# Altium integrated library National Semiconductor Amplifier.IntLib: 1665 symbols (part 29 of 44)
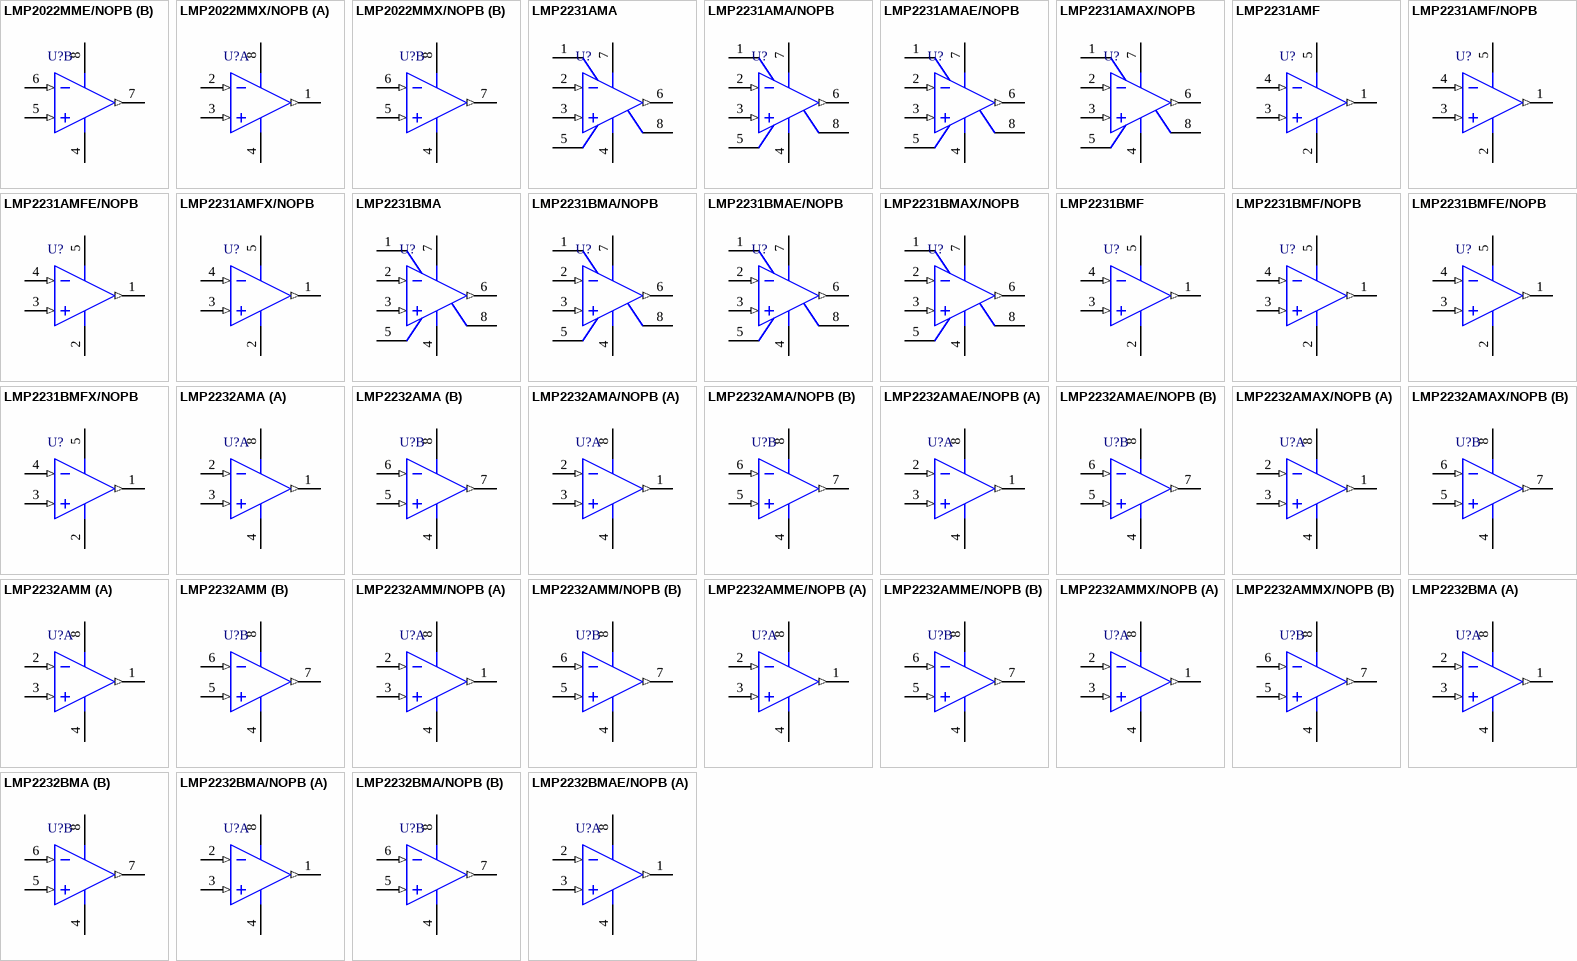
[diagram p112: symbols LMP2022MME/NOPB to LMP2232BMAE/NOPB]

## LMP2232BMA
designator U?
Dual, Micropower, 1.6V, Precision , Operational Amplifier with CMOS Input, 8-pin Narrow SOIC; PartNumber: LMP2232BMA; Manufacturer: National Semiconductor; PackageTopMarking: NSZXTT*LMP22*32BMA; PowerWise: Y; CompType: Amplifiers; DatasheetVersion: Dec-2008; PackageVersion: revM, May-2009; PackageReference: M08A; PackageDescription: SOIC Narrow, 4.9 x 3.9 x 1.45mm, 8 Lead, 1.27mm Pitch; RoHS: Y; PinCount: 8; High-Reliability: Y; Code_JEDEC: MS-012-AA; Code_IPC: SOIC127P600-8; ComponentLink1Description: Manufacturer URL; ComponentLink1URL: http://www.national.com/; ComponentLink2Description: LMP2232 Datasheet; ComponentLink2URL: http://www.national.com/ds/LM/LMP2232.pdf; ComponentLink3Description: LMP2232 Web Page; ComponentLink3URL: http://www.national.com/pf/LM/LMP2232.html; ComponentLink4Description: M08A Package Page; ComponentLink4URL: http://www.national.com/packaging/folders/m08a.html
footprint M08A_N (SOIC, 8-Leads, Body 4.9x3.9mm, Pitch 1.27mm, IPC Medium Density)
footprint M08A_L (SOIC, 8-Leads, Body 4.9x3.9mm, Pitch 1.27mm, IPC High Density)
footprint M08A_M (SOIC, 8-Leads, Body 4.9x3.9mm, Pitch 1.27mm, IPC Low Density)
pins on every part: 4 V- (power), 8 V+ (power)
part A pins: 1 OUTA (out), 2 INA- (in), 3 INA+ (in)
part B pins: 5 INB+ (in), 6 INB- (in), 7 OUTB (out)

## LMP2232BMA/NOPB
designator U?
Dual, Micropower, 1.6V, Precision , Operational Amplifier with CMOS Input, 8-pin Narrow SOIC, Pb-Free; PartNumber: LMP2232BMA/NOPB; Manufacturer: National Semiconductor; PackageTopMarking: NSZXTT*LMP22*32BMA; PowerWise: Y; CompType: Amplifiers; DatasheetVersion: Dec-2008; PackageVersion: revM, May-2009; PackageReference: M08A; PackageDescription: SOIC Narrow, 4.9 x 3.9 x 1.45mm, 8 Lead, 1.27mm Pitch; RoHS: Y; PinCount: 8; High-Reliability: Y; Code_JEDEC: MS-012-AA; Code_IPC: SOIC127P600-8; ComponentLink1Description: Manufacturer URL; ComponentLink1URL: http://www.national.com/; ComponentLink2Description: LMP2232 Datasheet; ComponentLink2URL: http://www.national.com/ds/LM/LMP2232.pdf; ComponentLink3Description: LMP2232 Web Page; ComponentLink3URL: http://www.national.com/pf/LM/LMP2232.html; ComponentLink4Description: M08A Package Page; ComponentLink4URL: http://www.national.com/packaging/folders/m08a.html
footprint M08A_N (SOIC, 8-Leads, Body 4.9x3.9mm, Pitch 1.27mm, IPC Medium Density)
footprint M08A_L (SOIC, 8-Leads, Body 4.9x3.9mm, Pitch 1.27mm, IPC High Density)
footprint M08A_M (SOIC, 8-Leads, Body 4.9x3.9mm, Pitch 1.27mm, IPC Low Density)
pins on every part: 4 V- (power), 8 V+ (power)
part A pins: 1 OUTA (out), 2 INA- (in), 3 INA+ (in)
part B pins: 5 INB+ (in), 6 INB- (in), 7 OUTB (out)

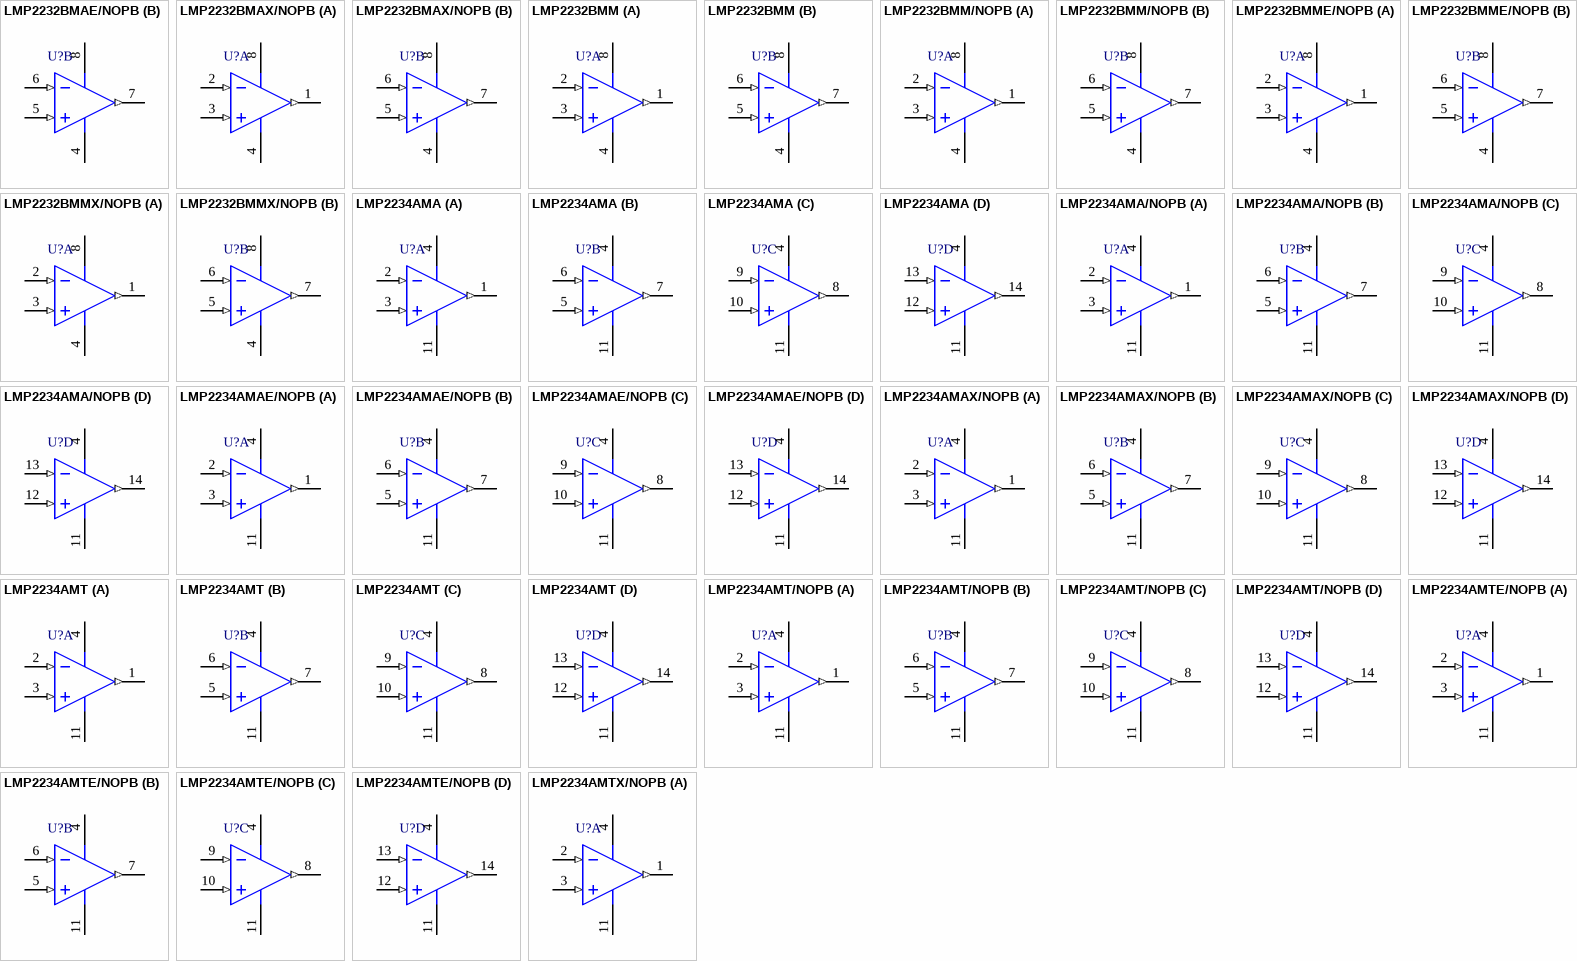
[diagram p57: symbols LMP2232BMAE/NOPB to LMP2234AMTX/NOPB]

## LMP2232BMAE/NOPB
designator U?
Dual, Micropower, 1.6V, Precision , Operational Amplifier with CMOS Input, 8-pin Narrow SOIC, Pb-Free; PartNumber: LMP2232BMAE/NOPB; Manufacturer: National Semiconductor; PackageTopMarking: NSZXTT*LMP22*32BMA; PowerWise: Y; CompType: Amplifiers; DatasheetVersion: Dec-2008; PackageVersion: revM, May-2009; PackageReference: M08A; PackageDescription: SOIC Narrow, 4.9 x 3.9 x 1.45mm, 8 Lead, 1.27mm Pitch; RoHS: Y; PinCount: 8; High-Reliability: Y; Code_JEDEC: MS-012-AA; Code_IPC: SOIC127P600-8; ComponentLink1Description: Manufacturer URL; ComponentLink1URL: http://www.national.com/; ComponentLink2Description: LMP2232 Datasheet; ComponentLink2URL: http://www.national.com/ds/LM/LMP2232.pdf; ComponentLink3Description: LMP2232 Web Page; ComponentLink3URL: http://www.national.com/pf/LM/LMP2232.html; ComponentLink4Description: M08A Package Page; ComponentLink4URL: http://www.national.com/packaging/folders/m08a.html
footprint M08A_N (SOIC, 8-Leads, Body 4.9x3.9mm, Pitch 1.27mm, IPC Medium Density)
footprint M08A_L (SOIC, 8-Leads, Body 4.9x3.9mm, Pitch 1.27mm, IPC High Density)
footprint M08A_M (SOIC, 8-Leads, Body 4.9x3.9mm, Pitch 1.27mm, IPC Low Density)
pins on every part: 4 V- (power), 8 V+ (power)
part A pins: 1 OUTA (out), 2 INA- (in), 3 INA+ (in)
part B pins: 5 INB+ (in), 6 INB- (in), 7 OUTB (out)

## LMP2232BMAX/NOPB
designator U?
Dual, Micropower, 1.6V, Precision , Operational Amplifier with CMOS Input, 8-pin Narrow SOIC, Pb-Free; PartNumber: LMP2232BMAX/NOPB; Manufacturer: National Semiconductor; PackageTopMarking: NSZXTT*LMP22*32BMA; PowerWise: Y; CompType: Amplifiers; DatasheetVersion: Dec-2008; PackageVersion: revM, May-2009; PackageReference: M08A; PackageDescription: SOIC Narrow, 4.9 x 3.9 x 1.45mm, 8 Lead, 1.27mm Pitch; RoHS: Y; PinCount: 8; High-Reliability: Y; Code_JEDEC: MS-012-AA; Code_IPC: SOIC127P600-8; ComponentLink1Description: Manufacturer URL; ComponentLink1URL: http://www.national.com/; ComponentLink2Description: LMP2232 Datasheet; ComponentLink2URL: http://www.national.com/ds/LM/LMP2232.pdf; ComponentLink3Description: LMP2232 Web Page; ComponentLink3URL: http://www.national.com/pf/LM/LMP2232.html; ComponentLink4Description: M08A Package Page; ComponentLink4URL: http://www.national.com/packaging/folders/m08a.html
footprint M08A_N (SOIC, 8-Leads, Body 4.9x3.9mm, Pitch 1.27mm, IPC Medium Density)
footprint M08A_L (SOIC, 8-Leads, Body 4.9x3.9mm, Pitch 1.27mm, IPC High Density)
footprint M08A_M (SOIC, 8-Leads, Body 4.9x3.9mm, Pitch 1.27mm, IPC Low Density)
pins on every part: 4 V- (power), 8 V+ (power)
part A pins: 1 OUTA (out), 2 INA- (in), 3 INA+ (in)
part B pins: 5 INB+ (in), 6 INB- (in), 7 OUTB (out)

## LMP2232BMM
designator U?
Dual, Micropower, 1.6V, Precision , Operational Amplifier with CMOS Input, 8-pin Mini SOIC; PartNumber: LMP2232BMM; Manufacturer: National Semiconductor; PackageTopMarking: ZXTT*AK5B; PowerWise: Y; CompType: Amplifiers; DatasheetVersion: Dec-2008; PackageVersion: revF, Apr-2008; PackageReference: MUA08A; PackageDescription: MINI SOIC, .118 x .118 x .034in, 8 Lead, .0256in Pitch; RoHS: Y; PinCount: 8; High-Reliability: Y; Code_JEDEC: MO-187-AA; ComponentLink1Description: Manufacturer URL; ComponentLink1URL: http://www.national.com/; ComponentLink2Description: LMP2232 Datasheet; ComponentLink2URL: http://www.national.com/ds/LM/LMP2232.pdf; ComponentLink3Description: LMP2232 Web Page; ComponentLink3URL: http://www.national.com/pf/LM/LMP2232.html; ComponentLink4Description: MUA08A Package Page; ComponentLink4URL: http://www.national.com/packaging/folders/mua08a.html
footprint MUA08A_N (TSOP, 8-Leads, Body 3x3mm, Pitch 0.65mm, IPC Medium Density)
footprint MUA08A_L (TSOP, 8-Leads, Body 3x3mm, Pitch 0.65mm, IPC High Density)
footprint MUA08A_M (TSOP, 8-Leads, Body 3x3mm, Pitch 0.65mm, IPC Low Density)
pins on every part: 4 V- (power), 8 V+ (power)
part A pins: 1 OUTA (out), 2 INA- (in), 3 INA+ (in)
part B pins: 5 INB+ (in), 6 INB- (in), 7 OUTB (out)

## LMP2232BMM/NOPB
designator U?
Dual, Micropower, 1.6V, Precision , Operational Amplifier with CMOS Input, 8-pin Mini SOIC, Pb-Free; PartNumber: LMP2232BMM/NOPB; Manufacturer: National Semiconductor; PackageTopMarking: ZXTT*AK5B; PowerWise: Y; CompType: Amplifiers; DatasheetVersion: Dec-2008; PackageVersion: revF, Apr-2008; PackageReference: MUA08A; PackageDescription: MINI SOIC, .118 x .118 x .034in, 8 Lead, .0256in Pitch; RoHS: Y; PinCount: 8; High-Reliability: Y; Code_JEDEC: MO-187-AA; ComponentLink1Description: Manufacturer URL; ComponentLink1URL: http://www.national.com/; ComponentLink2Description: LMP2232 Datasheet; ComponentLink2URL: http://www.national.com/ds/LM/LMP2232.pdf; ComponentLink3Description: LMP2232 Web Page; ComponentLink3URL: http://www.national.com/pf/LM/LMP2232.html; ComponentLink4Description: MUA08A Package Page; ComponentLink4URL: http://www.national.com/packaging/folders/mua08a.html
footprint MUA08A_N (TSOP, 8-Leads, Body 3x3mm, Pitch 0.65mm, IPC Medium Density)
footprint MUA08A_L (TSOP, 8-Leads, Body 3x3mm, Pitch 0.65mm, IPC High Density)
footprint MUA08A_M (TSOP, 8-Leads, Body 3x3mm, Pitch 0.65mm, IPC Low Density)
pins on every part: 4 V- (power), 8 V+ (power)
part A pins: 1 OUTA (out), 2 INA- (in), 3 INA+ (in)
part B pins: 5 INB+ (in), 6 INB- (in), 7 OUTB (out)

## LMP2232BMME/NOPB
designator U?
Dual, Micropower, 1.6V, Precision , Operational Amplifier with CMOS Input, 8-pin Mini SOIC, Pb-Free; PartNumber: LMP2232BMME/NOPB; Manufacturer: National Semiconductor; PackageTopMarking: ZXTT*AK5B; PowerWise: Y; CompType: Amplifiers; DatasheetVersion: Dec-2008; PackageVersion: revF, Apr-2008; PackageReference: MUA08A; PackageDescription: MINI SOIC, .118 x .118 x .034in, 8 Lead, .0256in Pitch; RoHS: Y; PinCount: 8; High-Reliability: Y; Code_JEDEC: MO-187-AA; ComponentLink1Description: Manufacturer URL; ComponentLink1URL: http://www.national.com/; ComponentLink2Description: LMP2232 Datasheet; ComponentLink2URL: http://www.national.com/ds/LM/LMP2232.pdf; ComponentLink3Description: LMP2232 Web Page; ComponentLink3URL: http://www.national.com/pf/LM/LMP2232.html; ComponentLink4Description: MUA08A Package Page; ComponentLink4URL: http://www.national.com/packaging/folders/mua08a.html
footprint MUA08A_N (TSOP, 8-Leads, Body 3x3mm, Pitch 0.65mm, IPC Medium Density)
footprint MUA08A_L (TSOP, 8-Leads, Body 3x3mm, Pitch 0.65mm, IPC High Density)
footprint MUA08A_M (TSOP, 8-Leads, Body 3x3mm, Pitch 0.65mm, IPC Low Density)
pins on every part: 4 V- (power), 8 V+ (power)
part A pins: 1 OUTA (out), 2 INA- (in), 3 INA+ (in)
part B pins: 5 INB+ (in), 6 INB- (in), 7 OUTB (out)

## LMP2232BMMX/NOPB
designator U?
Dual, Micropower, 1.6V, Precision , Operational Amplifier with CMOS Input, 8-pin Mini SOIC, Pb-Free; PartNumber: LMP2232BMMX/NOPB; Manufacturer: National Semiconductor; PackageTopMarking: ZXTT*AK5B; PowerWise: Y; CompType: Amplifiers; DatasheetVersion: Dec-2008; PackageVersion: revF, Apr-2008; PackageReference: MUA08A; PackageDescription: MINI SOIC, .118 x .118 x .034in, 8 Lead, .0256in Pitch; RoHS: Y; PinCount: 8; High-Reliability: Y; Code_JEDEC: MO-187-AA; ComponentLink1Description: Manufacturer URL; ComponentLink1URL: http://www.national.com/; ComponentLink2Description: LMP2232 Datasheet; ComponentLink2URL: http://www.national.com/ds/LM/LMP2232.pdf; ComponentLink3Description: LMP2232 Web Page; ComponentLink3URL: http://www.national.com/pf/LM/LMP2232.html; ComponentLink4Description: MUA08A Package Page; ComponentLink4URL: http://www.national.com/packaging/folders/mua08a.html
footprint MUA08A_N (TSOP, 8-Leads, Body 3x3mm, Pitch 0.65mm, IPC Medium Density)
footprint MUA08A_L (TSOP, 8-Leads, Body 3x3mm, Pitch 0.65mm, IPC High Density)
footprint MUA08A_M (TSOP, 8-Leads, Body 3x3mm, Pitch 0.65mm, IPC Low Density)
pins on every part: 4 V- (power), 8 V+ (power)
part A pins: 1 OUTA (out), 2 INA- (in), 3 INA+ (in)
part B pins: 5 INB+ (in), 6 INB- (in), 7 OUTB (out)

## LMP2234AMA
designator U?
Quad Micropower, 1.6V, Precision, Operational Amplifier with CMOS Input, 14-pin Narrow SOIC; PartNumber: LMP2234AMA; Manufacturer: National Semiconductor; PackageTopMarking: NSUZXYTT*LMP2234*AMA; PowerWise: N; CompType: Amplifiers; High-Reliability: Y; DatasheetVersion: Dec-2008; PackageVersion: revJ, Jan-1996; PackageReference: M14A; PackageDescription: Molded Package S.O., .150in Wide, 14 Lead; RoHS: Y; PinCount: 14; Code_JEDEC: MS-012AB; Code_IPC: SOIC127P600-14; ComponentLink1Description: Manufacturer URL; ComponentLink1URL: http://www.national.com/; ComponentLink2Description: LMP2234 Datasheet; ComponentLink2URL: http://www.national.com/ds/LM/LMP2234.pdf; ComponentLink3Description: LMP2234 Web Page; ComponentLink3URL: http://www.national.com/pf/LM/LMP2234.html; ComponentLink4Description: M14A Package Page; ComponentLink4URL: http://www.national.com/packaging/folders/m14a.html
footprint M14A_N (SOIC, 14-Leads, Body 8.6x3.9mm, Pitch 1.27mm, IPC Medium Density)
footprint M14A_L (SOIC, 14-Leads, Body 8.6x3.9mm, Pitch 1.27mm, IPC High Density)
footprint M14A_M (SOIC, 14-Leads, Body 8.6x3.9mm, Pitch 1.27mm, IPC Low Density)
pins on every part: 4 V+ (power), 11 V- (power)
part A pins: 1 OUTA (out), 2 INA- (in), 3 INA+ (in)
part B pins: 5 INB+ (in), 6 INB- (in), 7 OUTB (out)
part C pins: 8 OUTC (out), 9 INC- (in), 10 INC+ (in)
part D pins: 12 IND+ (in), 13 IND- (in), 14 OUTD (out)

## LMP2234AMA/NOPB
designator U?
Quad Micropower, 1.6V, Precision, Operational Amplifier with CMOS Input, 14-pin Narrow SOIC, Pb-Free; PartNumber: LMP2234AMA/NOPB; Manufacturer: National Semiconductor; PackageTopMarking: NSUZXYTTE#*LMP2234*AMA; PowerWise: N; CompType: Amplifiers; High-Reliability: Y; DatasheetVersion: Dec-2008; PackageVersion: revJ, Jan-1996; PackageReference: M14A; PackageDescription: Molded Package S.O., .150in Wide, 14 Lead; RoHS: Y; PinCount: 14; Code_JEDEC: MS-012AB; Code_IPC: SOIC127P600-14; ComponentLink1Description: Manufacturer URL; ComponentLink1URL: http://www.national.com/; ComponentLink2Description: LMP2234 Datasheet; ComponentLink2URL: http://www.national.com/ds/LM/LMP2234.pdf; ComponentLink3Description: LMP2234 Web Page; ComponentLink3URL: http://www.national.com/pf/LM/LMP2234.html; ComponentLink4Description: M14A Package Page; ComponentLink4URL: http://www.national.com/packaging/folders/m14a.html
footprint M14A_N (SOIC, 14-Leads, Body 8.6x3.9mm, Pitch 1.27mm, IPC Medium Density)
footprint M14A_L (SOIC, 14-Leads, Body 8.6x3.9mm, Pitch 1.27mm, IPC High Density)
footprint M14A_M (SOIC, 14-Leads, Body 8.6x3.9mm, Pitch 1.27mm, IPC Low Density)
pins on every part: 4 V+ (power), 11 V- (power)
part A pins: 1 OUTA (out), 2 INA- (in), 3 INA+ (in)
part B pins: 5 INB+ (in), 6 INB- (in), 7 OUTB (out)
part C pins: 8 OUTC (out), 9 INC- (in), 10 INC+ (in)
part D pins: 12 IND+ (in), 13 IND- (in), 14 OUTD (out)

## LMP2234AMAE/NOPB
designator U?
Quad Micropower, 1.6V, Precision, Operational Amplifier with CMOS Input, 14-pin Narrow SOIC, Pb-Free; PartNumber: LMP2234AMAE/NOPB; Manufacturer: National Semiconductor; PackageTopMarking: NSUZXYTTE#*LMP2234*AMA; PowerWise: N; CompType: Amplifiers; High-Reliability: Y; DatasheetVersion: Dec-2008; PackageVersion: revJ, Jan-1996; PackageReference: M14A; PackageDescription: Molded Package S.O., .150in Wide, 14 Lead; RoHS: Y; PinCount: 14; Code_JEDEC: MS-012AB; Code_IPC: SOIC127P600-14; ComponentLink1Description: Manufacturer URL; ComponentLink1URL: http://www.national.com/; ComponentLink2Description: LMP2234 Datasheet; ComponentLink2URL: http://www.national.com/ds/LM/LMP2234.pdf; ComponentLink3Description: LMP2234 Web Page; ComponentLink3URL: http://www.national.com/pf/LM/LMP2234.html; ComponentLink4Description: M14A Package Page; ComponentLink4URL: http://www.national.com/packaging/folders/m14a.html
footprint M14A_N (SOIC, 14-Leads, Body 8.6x3.9mm, Pitch 1.27mm, IPC Medium Density)
footprint M14A_L (SOIC, 14-Leads, Body 8.6x3.9mm, Pitch 1.27mm, IPC High Density)
footprint M14A_M (SOIC, 14-Leads, Body 8.6x3.9mm, Pitch 1.27mm, IPC Low Density)
pins on every part: 4 V+ (power), 11 V- (power)
part A pins: 1 OUTA (out), 2 INA- (in), 3 INA+ (in)
part B pins: 5 INB+ (in), 6 INB- (in), 7 OUTB (out)
part C pins: 8 OUTC (out), 9 INC- (in), 10 INC+ (in)
part D pins: 12 IND+ (in), 13 IND- (in), 14 OUTD (out)

## LMP2234AMAX/NOPB
designator U?
Quad Micropower, 1.6V, Precision, Operational Amplifier with CMOS Input, 14-pin Narrow SOIC, Pb-Free; PartNumber: LMP2234AMAX/NOPB; Manufacturer: National Semiconductor; PackageTopMarking: NSUZXYTTE#*LMP2234*AMA; PowerWise: N; CompType: Amplifiers; High-Reliability: Y; DatasheetVersion: Dec-2008; PackageVersion: revJ, Jan-1996; PackageReference: M14A; PackageDescription: Molded Package S.O., .150in Wide, 14 Lead; RoHS: Y; PinCount: 14; Code_JEDEC: MS-012AB; Code_IPC: SOIC127P600-14; ComponentLink1Description: Manufacturer URL; ComponentLink1URL: http://www.national.com/; ComponentLink2Description: LMP2234 Datasheet; ComponentLink2URL: http://www.national.com/ds/LM/LMP2234.pdf; ComponentLink3Description: LMP2234 Web Page; ComponentLink3URL: http://www.national.com/pf/LM/LMP2234.html; ComponentLink4Description: M14A Package Page; ComponentLink4URL: http://www.national.com/packaging/folders/m14a.html
footprint M14A_N (SOIC, 14-Leads, Body 8.6x3.9mm, Pitch 1.27mm, IPC Medium Density)
footprint M14A_L (SOIC, 14-Leads, Body 8.6x3.9mm, Pitch 1.27mm, IPC High Density)
footprint M14A_M (SOIC, 14-Leads, Body 8.6x3.9mm, Pitch 1.27mm, IPC Low Density)
pins on every part: 4 V+ (power), 11 V- (power)
part A pins: 1 OUTA (out), 2 INA- (in), 3 INA+ (in)
part B pins: 5 INB+ (in), 6 INB- (in), 7 OUTB (out)
part C pins: 8 OUTC (out), 9 INC- (in), 10 INC+ (in)
part D pins: 12 IND+ (in), 13 IND- (in), 14 OUTD (out)

## LMP2234AMT
designator U?
Quad Micropower, 1.6V, Precision, Operational Amplifier with CMOS Input, 14-pin TSSOP; PartNumber: LMP2234AMT; Manufacturer: National Semiconductor; PackageTopMarking: NSUZXYTT*LMP223*4AMT; PowerWise: N; CompType: Amplifiers; High-Reliability: Y; DatasheetVersion: Dec-2008; PackageVersion: revD, Jun-2003; PackageReference: MTC14; PackageDescription: Molded TSSOP, JEDEC, 5 x 4.4 x 0.9mm Body, 14 Lead, 0.65mm Pitch; RoHS: Y; PinCount: 14; Code_JEDEC: MO-153-AB-1; ComponentLink1Description: Manufacturer URL; ComponentLink1URL: http://www.national.com/; ComponentLink2Description: LMP2234 Datasheet; ComponentLink2URL: http://www.national.com/ds/LM/LMP2234.pdf; ComponentLink3Description: LMP2234 Web Page; ComponentLink3URL: http://www.national.com/pf/LM/LMP2234.html; ComponentLink4Description: MTC14 Package Page; ComponentLink4URL: http://www.national.com/packaging/folders/mtc14.html
footprint MTC14_N (TSOP, 14-Leads, Body 5x4.4mm, Pitch 0.65mm, IPC Medium Density)
footprint MTC14_L (TSOP, 14-Leads, Body 5x4.4mm, Pitch 0.65mm, IPC High Density)
footprint MTC14_M (TSOP, 14-Leads, Body 5x4.4mm, Pitch 0.65mm, IPC Low Density)
pins on every part: 4 V+ (power), 11 V- (power)
part A pins: 1 OUTA (out), 2 INA- (in), 3 INA+ (in)
part B pins: 5 INB+ (in), 6 INB- (in), 7 OUTB (out)
part C pins: 8 OUTC (out), 9 INC- (in), 10 INC+ (in)
part D pins: 12 IND+ (in), 13 IND- (in), 14 OUTD (out)

## LMP2234AMT/NOPB
designator U?
Quad Micropower, 1.6V, Precision, Operational Amplifier with CMOS Input, 14-pin TSSOP, Pb-Free; PartNumber: LMP2234AMT/NOPB; Manufacturer: National Semiconductor; PackageTopMarking: NSUZXYTT*LMP223*4AMT; PowerWise: N; CompType: Amplifiers; High-Reliability: Y; DatasheetVersion: Dec-2008; PackageVersion: revD, Jun-2003; PackageReference: MTC14; PackageDescription: Molded TSSOP, JEDEC, 5 x 4.4 x 0.9mm Body, 14 Lead, 0.65mm Pitch; RoHS: Y; PinCount: 14; Code_JEDEC: MO-153-AB-1; ComponentLink1Description: Manufacturer URL; ComponentLink1URL: http://www.national.com/; ComponentLink2Description: LMP2234 Datasheet; ComponentLink2URL: http://www.national.com/ds/LM/LMP2234.pdf; ComponentLink3Description: LMP2234 Web Page; ComponentLink3URL: http://www.national.com/pf/LM/LMP2234.html; ComponentLink4Description: MTC14 Package Page; ComponentLink4URL: http://www.national.com/packaging/folders/mtc14.html
footprint MTC14_N (TSOP, 14-Leads, Body 5x4.4mm, Pitch 0.65mm, IPC Medium Density)
footprint MTC14_L (TSOP, 14-Leads, Body 5x4.4mm, Pitch 0.65mm, IPC High Density)
footprint MTC14_M (TSOP, 14-Leads, Body 5x4.4mm, Pitch 0.65mm, IPC Low Density)
pins on every part: 4 V+ (power), 11 V- (power)
part A pins: 1 OUTA (out), 2 INA- (in), 3 INA+ (in)
part B pins: 5 INB+ (in), 6 INB- (in), 7 OUTB (out)
part C pins: 8 OUTC (out), 9 INC- (in), 10 INC+ (in)
part D pins: 12 IND+ (in), 13 IND- (in), 14 OUTD (out)

## LMP2234AMTE/NOPB
designator U?
Quad Micropower, 1.6V, Precision, Operational Amplifier with CMOS Input, 14-pin TSSOP, Pb-Free; PartNumber: LMP2234AMTE/NOPB; Manufacturer: National Semiconductor; PackageTopMarking: NSUZXYTT*LMP223*4AMT; PowerWise: N; CompType: Amplifiers; High-Reliability: Y; DatasheetVersion: Dec-2008; PackageVersion: revD, Jun-2003; PackageReference: MTC14; PackageDescription: Molded TSSOP, JEDEC, 5 x 4.4 x 0.9mm Body, 14 Lead, 0.65mm Pitch; RoHS: Y; PinCount: 14; Code_JEDEC: MO-153-AB-1; ComponentLink1Description: Manufacturer URL; ComponentLink1URL: http://www.national.com/; ComponentLink2Description: LMP2234 Datasheet; ComponentLink2URL: http://www.national.com/ds/LM/LMP2234.pdf; ComponentLink3Description: LMP2234 Web Page; ComponentLink3URL: http://www.national.com/pf/LM/LMP2234.html; ComponentLink4Description: MTC14 Package Page; ComponentLink4URL: http://www.national.com/packaging/folders/mtc14.html
footprint MTC14_N (TSOP, 14-Leads, Body 5x4.4mm, Pitch 0.65mm, IPC Medium Density)
footprint MTC14_L (TSOP, 14-Leads, Body 5x4.4mm, Pitch 0.65mm, IPC High Density)
footprint MTC14_M (TSOP, 14-Leads, Body 5x4.4mm, Pitch 0.65mm, IPC Low Density)
pins on every part: 4 V+ (power), 11 V- (power)
part A pins: 1 OUTA (out), 2 INA- (in), 3 INA+ (in)
part B pins: 5 INB+ (in), 6 INB- (in), 7 OUTB (out)
part C pins: 8 OUTC (out), 9 INC- (in), 10 INC+ (in)
part D pins: 12 IND+ (in), 13 IND- (in), 14 OUTD (out)

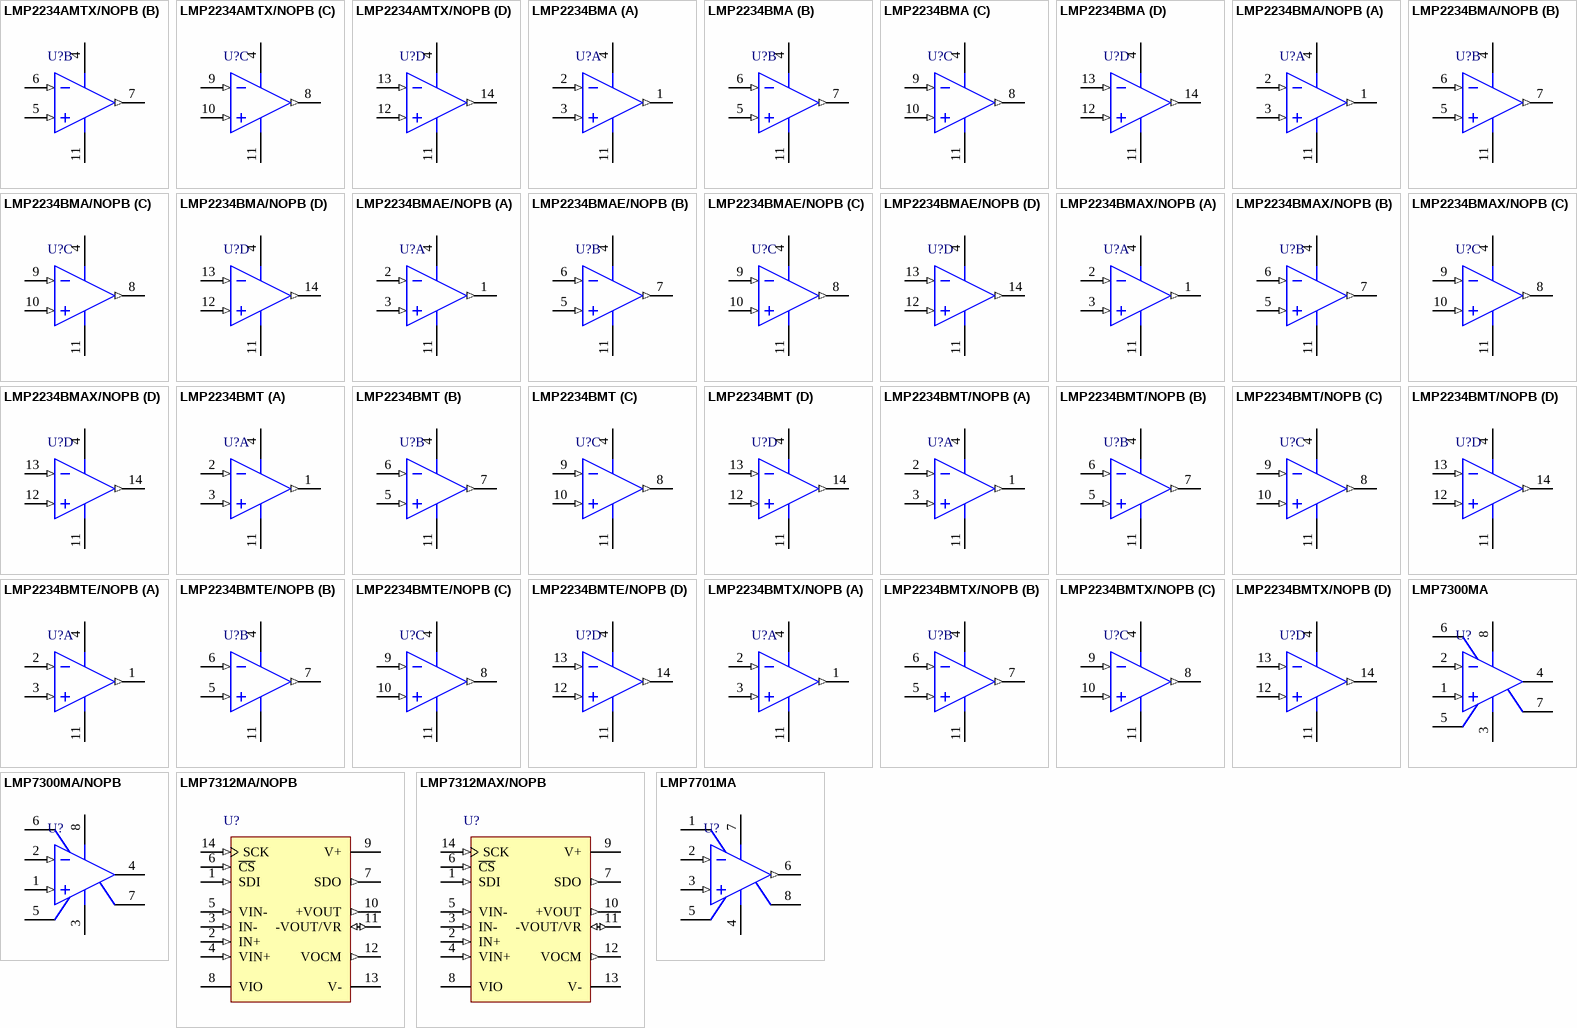
[diagram p58: symbols LMP2234AMTX/NOPB to LMP7701MA]

## LMP2234AMTX/NOPB
designator U?
Quad Micropower, 1.6V, Precision, Operational Amplifier with CMOS Input, 14-pin TSSOP, Pb-Free; PartNumber: LMP2234AMTX/NOPB; Manufacturer: National Semiconductor; PackageTopMarking: NSUZXYTT*LMP223*4AMT; PowerWise: N; CompType: Amplifiers; High-Reliability: Y; DatasheetVersion: Dec-2008; PackageVersion: revD, Jun-2003; PackageReference: MTC14; PackageDescription: Molded TSSOP, JEDEC, 5 x 4.4 x 0.9mm Body, 14 Lead, 0.65mm Pitch; RoHS: Y; PinCount: 14; Code_JEDEC: MO-153-AB-1; ComponentLink1Description: Manufacturer URL; ComponentLink1URL: http://www.national.com/; ComponentLink2Description: LMP2234 Datasheet; ComponentLink2URL: http://www.national.com/ds/LM/LMP2234.pdf; ComponentLink3Description: LMP2234 Web Page; ComponentLink3URL: http://www.national.com/pf/LM/LMP2234.html; ComponentLink4Description: MTC14 Package Page; ComponentLink4URL: http://www.national.com/packaging/folders/mtc14.html
footprint MTC14_N (TSOP, 14-Leads, Body 5x4.4mm, Pitch 0.65mm, IPC Medium Density)
footprint MTC14_L (TSOP, 14-Leads, Body 5x4.4mm, Pitch 0.65mm, IPC High Density)
footprint MTC14_M (TSOP, 14-Leads, Body 5x4.4mm, Pitch 0.65mm, IPC Low Density)
pins on every part: 4 V+ (power), 11 V- (power)
part A pins: 1 OUTA (out), 2 INA- (in), 3 INA+ (in)
part B pins: 5 INB+ (in), 6 INB- (in), 7 OUTB (out)
part C pins: 8 OUTC (out), 9 INC- (in), 10 INC+ (in)
part D pins: 12 IND+ (in), 13 IND- (in), 14 OUTD (out)

## LMP2234BMA
designator U?
Quad Micropower, 1.6V, Precision, Operational Amplifier with CMOS Input, 14-pin Narrow SOIC; PartNumber: LMP2234BMA; Manufacturer: National Semiconductor; PackageTopMarking: NSUZXYTT*LMP2234*BMA; PowerWise: N; CompType: Amplifiers; High-Reliability: Y; DatasheetVersion: Dec-2008; PackageVersion: revJ, Jan-1996; PackageReference: M14A; PackageDescription: Molded Package S.O., .150in Wide, 14 Lead; RoHS: Y; PinCount: 14; Code_JEDEC: MS-012AB; Code_IPC: SOIC127P600-14; ComponentLink1Description: Manufacturer URL; ComponentLink1URL: http://www.national.com/; ComponentLink2Description: LMP2234 Datasheet; ComponentLink2URL: http://www.national.com/ds/LM/LMP2234.pdf; ComponentLink3Description: LMP2234 Web Page; ComponentLink3URL: http://www.national.com/pf/LM/LMP2234.html; ComponentLink4Description: M14A Package Page; ComponentLink4URL: http://www.national.com/packaging/folders/m14a.html
footprint M14A_N (SOIC, 14-Leads, Body 8.6x3.9mm, Pitch 1.27mm, IPC Medium Density)
footprint M14A_L (SOIC, 14-Leads, Body 8.6x3.9mm, Pitch 1.27mm, IPC High Density)
footprint M14A_M (SOIC, 14-Leads, Body 8.6x3.9mm, Pitch 1.27mm, IPC Low Density)
pins on every part: 4 V+ (power), 11 V- (power)
part A pins: 1 OUTA (out), 2 INA- (in), 3 INA+ (in)
part B pins: 5 INB+ (in), 6 INB- (in), 7 OUTB (out)
part C pins: 8 OUTC (out), 9 INC- (in), 10 INC+ (in)
part D pins: 12 IND+ (in), 13 IND- (in), 14 OUTD (out)

## LMP2234BMA/NOPB
designator U?
Quad Micropower, 1.6V, Precision, Operational Amplifier with CMOS Input, 14-pin Narrow SOIC, Pb-Free; PartNumber: LMP2234BMA/NOPB; Manufacturer: National Semiconductor; PackageTopMarking: NSUZXYTTE#*LMP2234*BMA; PowerWise: N; CompType: Amplifiers; High-Reliability: Y; DatasheetVersion: Dec-2008; PackageVersion: revJ, Jan-1996; PackageReference: M14A; PackageDescription: Molded Package S.O., .150in Wide, 14 Lead; RoHS: Y; PinCount: 14; Code_JEDEC: MS-012AB; Code_IPC: SOIC127P600-14; ComponentLink1Description: Manufacturer URL; ComponentLink1URL: http://www.national.com/; ComponentLink2Description: LMP2234 Datasheet; ComponentLink2URL: http://www.national.com/ds/LM/LMP2234.pdf; ComponentLink3Description: LMP2234 Web Page; ComponentLink3URL: http://www.national.com/pf/LM/LMP2234.html; ComponentLink4Description: M14A Package Page; ComponentLink4URL: http://www.national.com/packaging/folders/m14a.html
footprint M14A_N (SOIC, 14-Leads, Body 8.6x3.9mm, Pitch 1.27mm, IPC Medium Density)
footprint M14A_L (SOIC, 14-Leads, Body 8.6x3.9mm, Pitch 1.27mm, IPC High Density)
footprint M14A_M (SOIC, 14-Leads, Body 8.6x3.9mm, Pitch 1.27mm, IPC Low Density)
pins on every part: 4 V+ (power), 11 V- (power)
part A pins: 1 OUTA (out), 2 INA- (in), 3 INA+ (in)
part B pins: 5 INB+ (in), 6 INB- (in), 7 OUTB (out)
part C pins: 8 OUTC (out), 9 INC- (in), 10 INC+ (in)
part D pins: 12 IND+ (in), 13 IND- (in), 14 OUTD (out)

## LMP2234BMAE/NOPB
designator U?
Quad Micropower, 1.6V, Precision, Operational Amplifier with CMOS Input, 14-pin Narrow SOIC, Pb-Free; PartNumber: LMP2234BMAE/NOPB; Manufacturer: National Semiconductor; PackageTopMarking: NSUZXYTTE#*LMP2234*BMA; PowerWise: N; CompType: Amplifiers; High-Reliability: Y; DatasheetVersion: Dec-2008; PackageVersion: revJ, Jan-1996; PackageReference: M14A; PackageDescription: Molded Package S.O., .150in Wide, 14 Lead; RoHS: Y; PinCount: 14; Code_JEDEC: MS-012AB; Code_IPC: SOIC127P600-14; ComponentLink1Description: Manufacturer URL; ComponentLink1URL: http://www.national.com/; ComponentLink2Description: LMP2234 Datasheet; ComponentLink2URL: http://www.national.com/ds/LM/LMP2234.pdf; ComponentLink3Description: LMP2234 Web Page; ComponentLink3URL: http://www.national.com/pf/LM/LMP2234.html; ComponentLink4Description: M14A Package Page; ComponentLink4URL: http://www.national.com/packaging/folders/m14a.html
footprint M14A_N (SOIC, 14-Leads, Body 8.6x3.9mm, Pitch 1.27mm, IPC Medium Density)
footprint M14A_L (SOIC, 14-Leads, Body 8.6x3.9mm, Pitch 1.27mm, IPC High Density)
footprint M14A_M (SOIC, 14-Leads, Body 8.6x3.9mm, Pitch 1.27mm, IPC Low Density)
pins on every part: 4 V+ (power), 11 V- (power)
part A pins: 1 OUTA (out), 2 INA- (in), 3 INA+ (in)
part B pins: 5 INB+ (in), 6 INB- (in), 7 OUTB (out)
part C pins: 8 OUTC (out), 9 INC- (in), 10 INC+ (in)
part D pins: 12 IND+ (in), 13 IND- (in), 14 OUTD (out)

## LMP2234BMAX/NOPB
designator U?
Quad Micropower, 1.6V, Precision, Operational Amplifier with CMOS Input, 14-pin Narrow SOIC, Pb-Free; PartNumber: LMP2234BMAX/NOPB; Manufacturer: National Semiconductor; PackageTopMarking: NSUZXYTTE#*LMP2234*BMA; PowerWise: N; CompType: Amplifiers; High-Reliability: Y; DatasheetVersion: Dec-2008; PackageVersion: revJ, Jan-1996; PackageReference: M14A; PackageDescription: Molded Package S.O., .150in Wide, 14 Lead; RoHS: Y; PinCount: 14; Code_JEDEC: MS-012AB; Code_IPC: SOIC127P600-14; ComponentLink1Description: Manufacturer URL; ComponentLink1URL: http://www.national.com/; ComponentLink2Description: LMP2234 Datasheet; ComponentLink2URL: http://www.national.com/ds/LM/LMP2234.pdf; ComponentLink3Description: LMP2234 Web Page; ComponentLink3URL: http://www.national.com/pf/LM/LMP2234.html; ComponentLink4Description: M14A Package Page; ComponentLink4URL: http://www.national.com/packaging/folders/m14a.html
footprint M14A_N (SOIC, 14-Leads, Body 8.6x3.9mm, Pitch 1.27mm, IPC Medium Density)
footprint M14A_L (SOIC, 14-Leads, Body 8.6x3.9mm, Pitch 1.27mm, IPC High Density)
footprint M14A_M (SOIC, 14-Leads, Body 8.6x3.9mm, Pitch 1.27mm, IPC Low Density)
pins on every part: 4 V+ (power), 11 V- (power)
part A pins: 1 OUTA (out), 2 INA- (in), 3 INA+ (in)
part B pins: 5 INB+ (in), 6 INB- (in), 7 OUTB (out)
part C pins: 8 OUTC (out), 9 INC- (in), 10 INC+ (in)
part D pins: 12 IND+ (in), 13 IND- (in), 14 OUTD (out)

## LMP2234BMT
designator U?
Quad Micropower, 1.6V, Precision, Operational Amplifier with CMOS Input, 14-pin TSSOP; PartNumber: LMP2234BMT; Manufacturer: National Semiconductor; PackageTopMarking: NSUZXYTT*LMP223*4BMT; PowerWise: N; CompType: Amplifiers; High-Reliability: Y; DatasheetVersion: Dec-2008; PackageVersion: revD, Jun-2003; PackageReference: MTC14; PackageDescription: Molded TSSOP, JEDEC, 5 x 4.4 x 0.9mm Body, 14 Lead, 0.65mm Pitch; RoHS: Y; PinCount: 14; Code_JEDEC: MO-153-AB-1; ComponentLink1Description: Manufacturer URL; ComponentLink1URL: http://www.national.com/; ComponentLink2Description: LMP2234 Datasheet; ComponentLink2URL: http://www.national.com/ds/LM/LMP2234.pdf; ComponentLink3Description: LMP2234 Web Page; ComponentLink3URL: http://www.national.com/pf/LM/LMP2234.html; ComponentLink4Description: MTC14 Package Page; ComponentLink4URL: http://www.national.com/packaging/folders/mtc14.html
footprint MTC14_N (TSOP, 14-Leads, Body 5x4.4mm, Pitch 0.65mm, IPC Medium Density)
footprint MTC14_L (TSOP, 14-Leads, Body 5x4.4mm, Pitch 0.65mm, IPC High Density)
footprint MTC14_M (TSOP, 14-Leads, Body 5x4.4mm, Pitch 0.65mm, IPC Low Density)
pins on every part: 4 V+ (power), 11 V- (power)
part A pins: 1 OUTA (out), 2 INA- (in), 3 INA+ (in)
part B pins: 5 INB+ (in), 6 INB- (in), 7 OUTB (out)
part C pins: 8 OUTC (out), 9 INC- (in), 10 INC+ (in)
part D pins: 12 IND+ (in), 13 IND- (in), 14 OUTD (out)

## LMP2234BMT/NOPB
designator U?
Quad Micropower, 1.6V, Precision, Operational Amplifier with CMOS Input, 14-pin TSSOP, Pb-Free; PartNumber: LMP2234BMT/NOPB; Manufacturer: National Semiconductor; PackageTopMarking: NSUZXYTT*LMP223*4BMT; PowerWise: N; CompType: Amplifiers; High-Reliability: Y; DatasheetVersion: Dec-2008; PackageVersion: revD, Jun-2003; PackageReference: MTC14; PackageDescription: Molded TSSOP, JEDEC, 5 x 4.4 x 0.9mm Body, 14 Lead, 0.65mm Pitch; RoHS: Y; PinCount: 14; Code_JEDEC: MO-153-AB-1; ComponentLink1Description: Manufacturer URL; ComponentLink1URL: http://www.national.com/; ComponentLink2Description: LMP2234 Datasheet; ComponentLink2URL: http://www.national.com/ds/LM/LMP2234.pdf; ComponentLink3Description: LMP2234 Web Page; ComponentLink3URL: http://www.national.com/pf/LM/LMP2234.html; ComponentLink4Description: MTC14 Package Page; ComponentLink4URL: http://www.national.com/packaging/folders/mtc14.html
footprint MTC14_N (TSOP, 14-Leads, Body 5x4.4mm, Pitch 0.65mm, IPC Medium Density)
footprint MTC14_L (TSOP, 14-Leads, Body 5x4.4mm, Pitch 0.65mm, IPC High Density)
footprint MTC14_M (TSOP, 14-Leads, Body 5x4.4mm, Pitch 0.65mm, IPC Low Density)
pins on every part: 4 V+ (power), 11 V- (power)
part A pins: 1 OUTA (out), 2 INA- (in), 3 INA+ (in)
part B pins: 5 INB+ (in), 6 INB- (in), 7 OUTB (out)
part C pins: 8 OUTC (out), 9 INC- (in), 10 INC+ (in)
part D pins: 12 IND+ (in), 13 IND- (in), 14 OUTD (out)

## LMP2234BMTE/NOPB
designator U?
Quad Micropower, 1.6V, Precision, Operational Amplifier with CMOS Input, 14-pin TSSOP, Pb-Free; PartNumber: LMP2234BMTE/NOPB; Manufacturer: National Semiconductor; PackageTopMarking: NSUZXYTT*LMP223*4BMT; PowerWise: N; CompType: Amplifiers; High-Reliability: Y; DatasheetVersion: Dec-2008; PackageVersion: revD, Jun-2003; PackageReference: MTC14; PackageDescription: Molded TSSOP, JEDEC, 5 x 4.4 x 0.9mm Body, 14 Lead, 0.65mm Pitch; RoHS: Y; PinCount: 14; Code_JEDEC: MO-153-AB-1; ComponentLink1Description: Manufacturer URL; ComponentLink1URL: http://www.national.com/; ComponentLink2Description: LMP2234 Datasheet; ComponentLink2URL: http://www.national.com/ds/LM/LMP2234.pdf; ComponentLink3Description: LMP2234 Web Page; ComponentLink3URL: http://www.national.com/pf/LM/LMP2234.html; ComponentLink4Description: MTC14 Package Page; ComponentLink4URL: http://www.national.com/packaging/folders/mtc14.html
footprint MTC14_N (TSOP, 14-Leads, Body 5x4.4mm, Pitch 0.65mm, IPC Medium Density)
footprint MTC14_L (TSOP, 14-Leads, Body 5x4.4mm, Pitch 0.65mm, IPC High Density)
footprint MTC14_M (TSOP, 14-Leads, Body 5x4.4mm, Pitch 0.65mm, IPC Low Density)
pins on every part: 4 V+ (power), 11 V- (power)
part A pins: 1 OUTA (out), 2 INA- (in), 3 INA+ (in)
part B pins: 5 INB+ (in), 6 INB- (in), 7 OUTB (out)
part C pins: 8 OUTC (out), 9 INC- (in), 10 INC+ (in)
part D pins: 12 IND+ (in), 13 IND- (in), 14 OUTD (out)

## LMP2234BMTX/NOPB
designator U?
Quad Micropower, 1.6V, Precision, Operational Amplifier with CMOS Input, 14-pin TSSOP, Pb-Free; PartNumber: LMP2234BMTX/NOPB; Manufacturer: National Semiconductor; PackageTopMarking: NSUZXYTT*LMP223*4BMT; PowerWise: N; CompType: Amplifiers; High-Reliability: Y; DatasheetVersion: Dec-2008; PackageVersion: revD, Jun-2003; PackageReference: MTC14; PackageDescription: Molded TSSOP, JEDEC, 5 x 4.4 x 0.9mm Body, 14 Lead, 0.65mm Pitch; RoHS: Y; PinCount: 14; Code_JEDEC: MO-153-AB-1; ComponentLink1Description: Manufacturer URL; ComponentLink1URL: http://www.national.com/; ComponentLink2Description: LMP2234 Datasheet; ComponentLink2URL: http://www.national.com/ds/LM/LMP2234.pdf; ComponentLink3Description: LMP2234 Web Page; ComponentLink3URL: http://www.national.com/pf/LM/LMP2234.html; ComponentLink4Description: MTC14 Package Page; ComponentLink4URL: http://www.national.com/packaging/folders/mtc14.html
footprint MTC14_N (TSOP, 14-Leads, Body 5x4.4mm, Pitch 0.65mm, IPC Medium Density)
footprint MTC14_L (TSOP, 14-Leads, Body 5x4.4mm, Pitch 0.65mm, IPC High Density)
footprint MTC14_M (TSOP, 14-Leads, Body 5x4.4mm, Pitch 0.65mm, IPC Low Density)
pins on every part: 4 V+ (power), 11 V- (power)
part A pins: 1 OUTA (out), 2 INA- (in), 3 INA+ (in)
part B pins: 5 INB+ (in), 6 INB- (in), 7 OUTB (out)
part C pins: 8 OUTC (out), 9 INC- (in), 10 INC+ (in)
part D pins: 12 IND+ (in), 13 IND- (in), 14 OUTD (out)

## LMP7300MA
designator U?
Micropower Precision Comparator and Precision Reference with Adjustable Hysteresis, 8-pin Narrow SOIC; PartNumber: LMP7300MA; Manufacturer: National Semiconductor; PackageTopMarking: NSZXTT*LMP73*00MA; PowerWise: Y; CompType: Amplifiers; DatasheetVersion: Apr-2009; PackageVersion: revM, May-2009; PackageReference: M08A; PackageDescription: SOIC Narrow, 4.9 x 3.9 x 1.45mm, 8 Lead, 1.27mm Pitch; RoHS: Y; PinCount: 8; High-Reliability: Y; Code_JEDEC: MS-012-AA; Code_IPC: SOIC127P600-8; ComponentLink1Description: Manufacturer URL; ComponentLink1URL: http://www.national.com/; ComponentLink2Description: LMP7300 Datasheet; ComponentLink2URL: http://www.national.com/ds/LM/LMP7300.pdf; ComponentLink3Description: LMP7300 Web Page; ComponentLink3URL: http://www.national.com/pf/LM/LMP7300.html; ComponentLink4Description: M08A Package Page; ComponentLink4URL: http://www.national.com/packaging/folders/m08a.html
footprint M08A_N (SOIC, 8-Leads, Body 4.9x3.9mm, Pitch 1.27mm, IPC Medium Density)
footprint M08A_L (SOIC, 8-Leads, Body 4.9x3.9mm, Pitch 1.27mm, IPC High Density)
footprint M08A_M (SOIC, 8-Leads, Body 4.9x3.9mm, Pitch 1.27mm, IPC Low Density)
pins: 1 IN+ (in), 2 IN- (in), 3 GND (power), 4 OUT (oc), 5 HYSTN, 6 HYSTP, 7 REF (power), 8 V+ (power)

## LMP7300MA/NOPB
designator U?
Micropower Precision Comparator and Precision Reference with Adjustable Hysteresis, 8-pin Narrow SOIC, Pb-Free; PartNumber: LMP7300MA/NOPB; Manufacturer: National Semiconductor; PackageTopMarking: NSZXTT*LMP73*00MA; PowerWise: Y; CompType: Amplifiers; DatasheetVersion: Apr-2009; PackageVersion: revM, May-2009; PackageReference: M08A; PackageDescription: SOIC Narrow, 4.9 x 3.9 x 1.45mm, 8 Lead, 1.27mm Pitch; RoHS: Y; PinCount: 8; High-Reliability: Y; Code_JEDEC: MS-012-AA; Code_IPC: SOIC127P600-8; ComponentLink1Description: Manufacturer URL; ComponentLink1URL: http://www.national.com/; ComponentLink2Description: LMP7300 Datasheet; ComponentLink2URL: http://www.national.com/ds/LM/LMP7300.pdf; ComponentLink3Description: LMP7300 Web Page; ComponentLink3URL: http://www.national.com/pf/LM/LMP7300.html; ComponentLink4Description: M08A Package Page; ComponentLink4URL: http://www.national.com/packaging/folders/m08a.html
footprint M08A_N (SOIC, 8-Leads, Body 4.9x3.9mm, Pitch 1.27mm, IPC Medium Density)
footprint M08A_L (SOIC, 8-Leads, Body 4.9x3.9mm, Pitch 1.27mm, IPC High Density)
footprint M08A_M (SOIC, 8-Leads, Body 4.9x3.9mm, Pitch 1.27mm, IPC Low Density)
pins: 1 IN+ (in), 2 IN- (in), 3 GND (power), 4 OUT (oc), 5 HYSTN, 6 HYSTP, 7 REF (power), 8 V+ (power)

## LMP7312MA/NOPB
designator U?
Precision SPI-Programmable AFE with Differential/Single-Ended Input/Output, 14 pin SOIC NARROW; PartNumber: LMP7312MA/NOPB; Manufacturer: National Semiconductor; PackageTopMarking: NSUZXYTTE#*LMP7312*MA; PowerWise: N; CompType: Amplifiers; High-Reliability: Y; DatasheetVersion: Jun-2010; PackageVersion: revJ, Jan-1996; PackageReference: M14A; PackageDescription: Molded Package S.O., .150in Wide, 14 Lead; RoHS: Y; PinCount: 14; Code_JEDEC: MS-012AB; Code_IPC: SOIC127P600-14; ComponentLink1Description: Manufacturer URL; ComponentLink1URL: http://www.national.com/; ComponentLink2Description: LMP7312 Datasheet; ComponentLink2URL: http://www.national.com/ds/LM/LMP7312.pdf; ComponentLink3Description: LMP7312 Web Page; ComponentLink3URL: http://www.national.com/pf/LM/LMP7312.html; ComponentLink4Description: M14A Package Page; ComponentLink4URL: http://www.national.com/packaging/folders/m14a.html
footprint M14A_N (SOIC, 14-Leads, Body 8.6x3.9mm, Pitch 1.27mm, IPC Medium Density)
footprint M14A_L (SOIC, 14-Leads, Body 8.6x3.9mm, Pitch 1.27mm, IPC High Density)
footprint M14A_M (SOIC, 14-Leads, Body 8.6x3.9mm, Pitch 1.27mm, IPC Low Density)
pins: 1 SDI (in), 2 IN+ (in), 3 IN- (in), 4 VIN+ (in), 5 VIN- (in), 6 ~{CS} (in), 7 SDO (out), 8 VIO (power), 9 V+ (power), 10 +VOUT (out), 11 -VOUT/VR (io), 12 VOCM (out), 13 V- (power), 14 SCK (in)

## LMP7312MAX/NOPB
designator U?
Precision SPI-Programmable AFE with Differential/Single-Ended Input/Output, 14 pin SOIC NARROW; PartNumber: LMP7312MAX/NOPB; Manufacturer: National Semiconductor; PackageTopMarking: NSUZXYTTE#*LMP7312*MA; PowerWise: N; CompType: Amplifiers; High-Reliability: Y; DatasheetVersion: Jun-2010; PackageVersion: revJ, Jan-1996; PackageReference: M14A; PackageDescription: Molded Package S.O., .150in Wide, 14 Lead; RoHS: Y; PinCount: 14; Code_JEDEC: MS-012AB; Code_IPC: SOIC127P600-14; ComponentLink1Description: Manufacturer URL; ComponentLink1URL: http://www.national.com/; ComponentLink2Description: LMP7312 Datasheet; ComponentLink2URL: http://www.national.com/ds/LM/LMP7312.pdf; ComponentLink3Description: LMP7312 Web Page; ComponentLink3URL: http://www.national.com/pf/LM/LMP7312.html; ComponentLink4Description: M14A Package Page; ComponentLink4URL: http://www.national.com/packaging/folders/m14a.html
footprint M14A_N (SOIC, 14-Leads, Body 8.6x3.9mm, Pitch 1.27mm, IPC Medium Density)
footprint M14A_L (SOIC, 14-Leads, Body 8.6x3.9mm, Pitch 1.27mm, IPC High Density)
footprint M14A_M (SOIC, 14-Leads, Body 8.6x3.9mm, Pitch 1.27mm, IPC Low Density)
pins: 1 SDI (in), 2 IN+ (in), 3 IN- (in), 4 VIN+ (in), 5 VIN- (in), 6 ~{CS} (in), 7 SDO (out), 8 VIO (power), 9 V+ (power), 10 +VOUT (out), 11 -VOUT/VR (io), 12 VOCM (out), 13 V- (power), 14 SCK (in)

## LMP7701MA
designator U?
Precision, CMOS Input, RRIO, Wide Supply Range Amplifier, 8-pin Narrow SOIC; PartNumber: LMP7701MA; Manufacturer: National Semiconductor; PackageTopMarking: NSZXTT*LMP77*01MA; PowerWise: N; CompType: Amplifiers; High-Reliability: Y; DatasheetVersion: Jun-2008; PackageVersion: revM, May-2009; PackageReference: M08A; PackageDescription: SOIC Narrow, 4.9 x 3.9 x 1.45mm, 8 Lead, 1.27mm Pitch; RoHS: Y; PinCount: 8; Code_JEDEC: MS-012-AA; Code_IPC: SOIC127P600-8; ComponentLink1Description: Manufacturer URL; ComponentLink1URL: http://www.national.com/; ComponentLink2Description: LMP7701 Datasheet; ComponentLink2URL: http://www.national.com/ds/LM/LMP7701.pdf; ComponentLink3Description: LMP7701 Web Page; ComponentLink3URL: http://www.national.com/pf/LM/LMP7701.html; ComponentLink4Description: M08A Package Page; ComponentLink4URL: http://www.national.com/packaging/folders/m08a.html
footprint M08A_N (SOIC, 8-Leads, Body 4.9x3.9mm, Pitch 1.27mm, IPC Medium Density)
footprint M08A_L (SOIC, 8-Leads, Body 4.9x3.9mm, Pitch 1.27mm, IPC High Density)
footprint M08A_M (SOIC, 8-Leads, Body 4.9x3.9mm, Pitch 1.27mm, IPC Low Density)
pins: 1 NC, 2 IN- (in), 3 IN+ (in), 4 V- (power), 5 NC, 6 OUT (out), 7 V+ (power), 8 NC

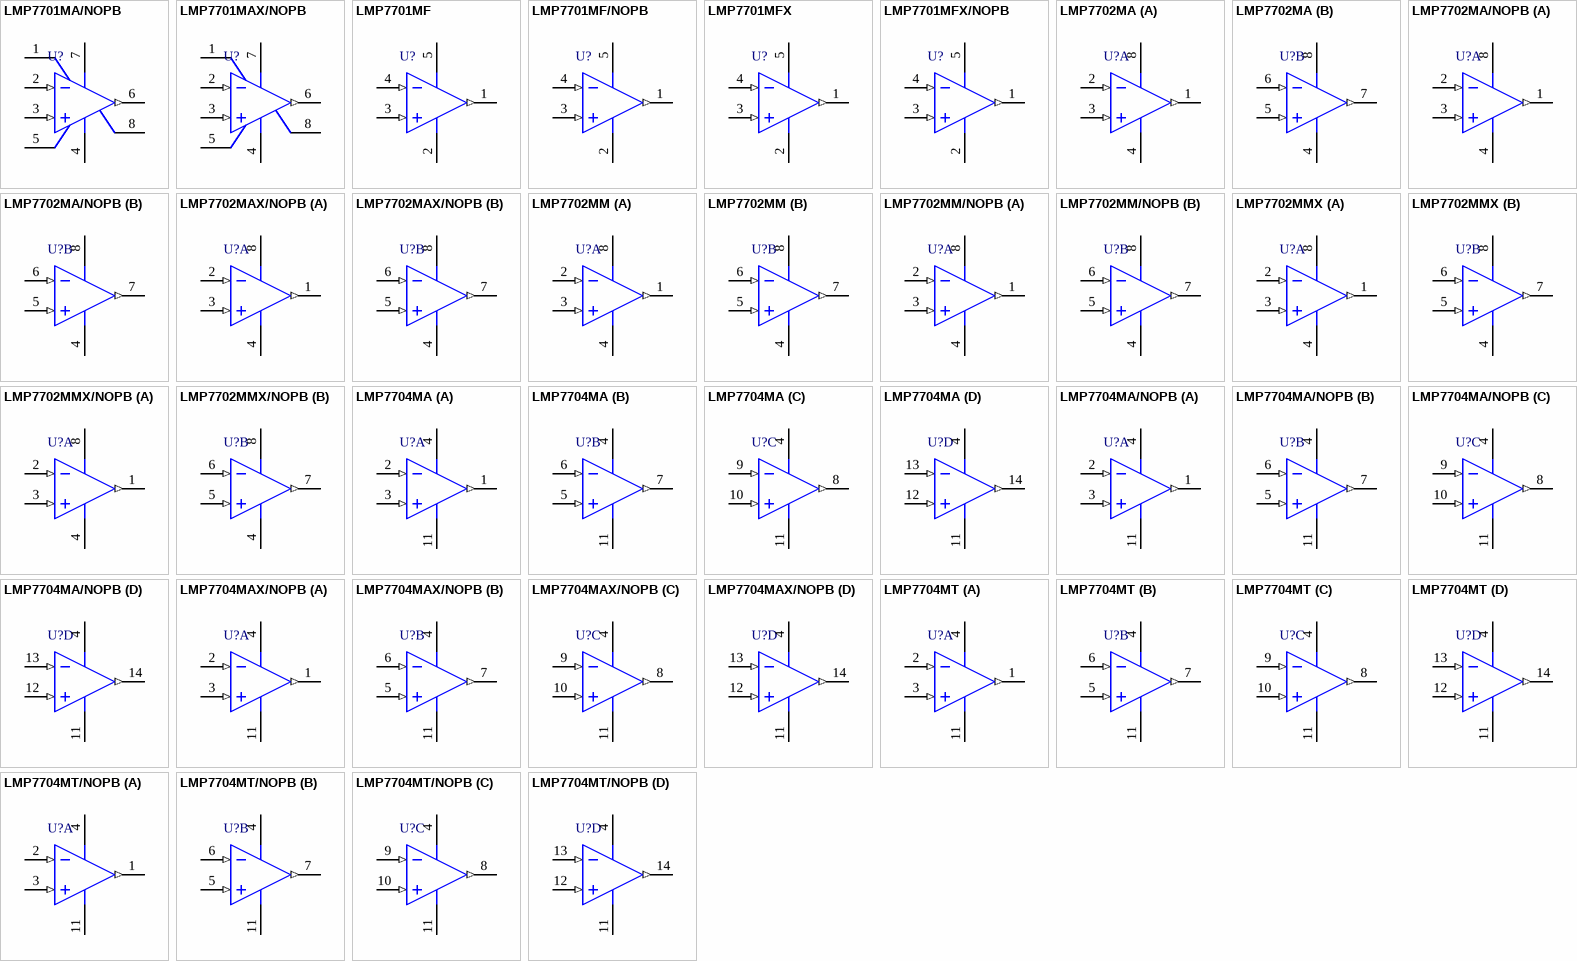
[diagram p59: symbols LMP7701MA/NOPB to LMP7704MT/NOPB]

## LMP7701MA/NOPB
designator U?
Precision, CMOS Input, RRIO, Wide Supply Range Amplifier, 8-pin Narrow SOIC, Pb-Free; PartNumber: LMP7701MA/NOPB; Manufacturer: National Semiconductor; PackageTopMarking: NSZXTT*LMP77*01MA; PowerWise: N; CompType: Amplifiers; High-Reliability: Y; DatasheetVersion: Jun-2008; PackageVersion: revM, May-2009; PackageReference: M08A; PackageDescription: SOIC Narrow, 4.9 x 3.9 x 1.45mm, 8 Lead, 1.27mm Pitch; RoHS: Y; PinCount: 8; Code_JEDEC: MS-012-AA; Code_IPC: SOIC127P600-8; ComponentLink1Description: Manufacturer URL; ComponentLink1URL: http://www.national.com/; ComponentLink2Description: LMP7701 Datasheet; ComponentLink2URL: http://www.national.com/ds/LM/LMP7701.pdf; ComponentLink3Description: LMP7701 Web Page; ComponentLink3URL: http://www.national.com/pf/LM/LMP7701.html; ComponentLink4Description: M08A Package Page; ComponentLink4URL: http://www.national.com/packaging/folders/m08a.html
footprint M08A_N (SOIC, 8-Leads, Body 4.9x3.9mm, Pitch 1.27mm, IPC Medium Density)
footprint M08A_L (SOIC, 8-Leads, Body 4.9x3.9mm, Pitch 1.27mm, IPC High Density)
footprint M08A_M (SOIC, 8-Leads, Body 4.9x3.9mm, Pitch 1.27mm, IPC Low Density)
pins: 1 NC, 2 IN- (in), 3 IN+ (in), 4 V- (power), 5 NC, 6 OUT (out), 7 V+ (power), 8 NC

## LMP7701MAX/NOPB
designator U?
Precision, CMOS Input, RRIO, Wide Supply Range Amplifier, 8-pin Narrow SOIC, Pb-Free; PartNumber: LMP7701MAX/NOPB; Manufacturer: National Semiconductor; PackageTopMarking: NSZXTT*LMP77*01MA; PowerWise: N; CompType: Amplifiers; High-Reliability: Y; DatasheetVersion: Jun-2008; PackageVersion: revM, May-2009; PackageReference: M08A; PackageDescription: SOIC Narrow, 4.9 x 3.9 x 1.45mm, 8 Lead, 1.27mm Pitch; RoHS: Y; PinCount: 8; Code_JEDEC: MS-012-AA; Code_IPC: SOIC127P600-8; ComponentLink1Description: Manufacturer URL; ComponentLink1URL: http://www.national.com/; ComponentLink2Description: LMP7701 Datasheet; ComponentLink2URL: http://www.national.com/ds/LM/LMP7701.pdf; ComponentLink3Description: LMP7701 Web Page; ComponentLink3URL: http://www.national.com/pf/LM/LMP7701.html; ComponentLink4Description: M08A Package Page; ComponentLink4URL: http://www.national.com/packaging/folders/m08a.html
footprint M08A_N (SOIC, 8-Leads, Body 4.9x3.9mm, Pitch 1.27mm, IPC Medium Density)
footprint M08A_L (SOIC, 8-Leads, Body 4.9x3.9mm, Pitch 1.27mm, IPC High Density)
footprint M08A_M (SOIC, 8-Leads, Body 4.9x3.9mm, Pitch 1.27mm, IPC Low Density)
pins: 1 NC, 2 IN- (in), 3 IN+ (in), 4 V- (power), 5 NC, 6 OUT (out), 7 V+ (power), 8 NC

## LMP7701MF
designator U?
Precision, CMOS Input, RRIO, Wide Supply Range Amplifier, 5-pin SOT-23; PartNumber: LMP7701MF; Manufacturer: National Semiconductor; PackageTopMarking: AC2A*XTT; PowerWise: N; CompType: Amplifiers; High-Reliability: Y; DatasheetVersion: Jun-2008; PackageVersion: revD, Aug-2008; PackageReference: MF05A; PackageDescription: Molded SOT-23, .115 x .063 x .040 in Body, 5 Lead, .0375 in Pitch; RoHS: N; PinCount: 5; ComponentLink1Description: Manufacturer URL; ComponentLink1URL: http://www.national.com/; ComponentLink2Description: LMP7701 Datasheet; ComponentLink2URL: http://www.national.com/ds/LM/LMP7701.pdf; ComponentLink3Description: LMP7701 Web Page; ComponentLink3URL: http://www.national.com/pf/LM/LMP7701.html; ComponentLink4Description: MF05A Package Page; ComponentLink4URL: http://www.national.com/packaging/folders/mf05a.html
footprint MF05A_N (SOT23, 5-Leads, Body 2.9x1.6mm, Pitch 0.95mm, Lead Span 2.8mm, IPC Medium Density)
footprint MF05A_L (SOT23, 5-Leads, Body 2.9x1.6mm, Pitch 0.95mm, Lead Span 2.8mm, IPC High Density)
footprint MF05A_M (SOT23, 5-Leads, Body 2.9x1.6mm, Pitch 0.95mm, Lead Span 2.8mm, IPC Low Density)
pins: 1 OUT (out), 2 V- (power), 3 IN+ (in), 4 IN- (in), 5 V+ (power)

## LMP7701MF/NOPB
designator U?
Precision, CMOS Input, RRIO, Wide Supply Range Amplifier, 5-pin SOT-23, Pb-Free; PartNumber: LMP7701MF/NOPB; Manufacturer: National Semiconductor; PackageTopMarking: AC2A*XTT; PowerWise: N; CompType: Amplifiers; High-Reliability: Y; DatasheetVersion: Jun-2008; PackageVersion: revD, Aug-2008; PackageReference: MF05A; PackageDescription: Molded SOT-23, .115 x .063 x .040 in Body, 5 Lead, .0375 in Pitch; RoHS: Y; PinCount: 5; ComponentLink1Description: Manufacturer URL; ComponentLink1URL: http://www.national.com/; ComponentLink2Description: LMP7701 Datasheet; ComponentLink2URL: http://www.national.com/ds/LM/LMP7701.pdf; ComponentLink3Description: LMP7701 Web Page; ComponentLink3URL: http://www.national.com/pf/LM/LMP7701.html; ComponentLink4Description: MF05A Package Page; ComponentLink4URL: http://www.national.com/packaging/folders/mf05a.html
footprint MF05A_N (SOT23, 5-Leads, Body 2.9x1.6mm, Pitch 0.95mm, Lead Span 2.8mm, IPC Medium Density)
footprint MF05A_L (SOT23, 5-Leads, Body 2.9x1.6mm, Pitch 0.95mm, Lead Span 2.8mm, IPC High Density)
footprint MF05A_M (SOT23, 5-Leads, Body 2.9x1.6mm, Pitch 0.95mm, Lead Span 2.8mm, IPC Low Density)
pins: 1 OUT (out), 2 V- (power), 3 IN+ (in), 4 IN- (in), 5 V+ (power)

## LMP7701MFX
designator U?
Precision, CMOS Input, RRIO, Wide Supply Range Amplifier, 5-pin SOT-23; PartNumber: LMP7701MFX; Manufacturer: National Semiconductor; PackageTopMarking: AC2A*XTT; PowerWise: N; CompType: Amplifiers; High-Reliability: Y; DatasheetVersion: Jun-2008; PackageVersion: revD, Aug-2008; PackageReference: MF05A; PackageDescription: Molded SOT-23, .115 x .063 x .040 in Body, 5 Lead, .0375 in Pitch; RoHS: N; PinCount: 5; ComponentLink1Description: Manufacturer URL; ComponentLink1URL: http://www.national.com/; ComponentLink2Description: LMP7701 Datasheet; ComponentLink2URL: http://www.national.com/ds/LM/LMP7701.pdf; ComponentLink3Description: LMP7701 Web Page; ComponentLink3URL: http://www.national.com/pf/LM/LMP7701.html; ComponentLink4Description: MF05A Package Page; ComponentLink4URL: http://www.national.com/packaging/folders/mf05a.html
footprint MF05A_N (SOT23, 5-Leads, Body 2.9x1.6mm, Pitch 0.95mm, Lead Span 2.8mm, IPC Medium Density)
footprint MF05A_L (SOT23, 5-Leads, Body 2.9x1.6mm, Pitch 0.95mm, Lead Span 2.8mm, IPC High Density)
footprint MF05A_M (SOT23, 5-Leads, Body 2.9x1.6mm, Pitch 0.95mm, Lead Span 2.8mm, IPC Low Density)
pins: 1 OUT (out), 2 V- (power), 3 IN+ (in), 4 IN- (in), 5 V+ (power)

## LMP7701MFX/NOPB
designator U?
Precision, CMOS Input, RRIO, Wide Supply Range Amplifier, 5-pin SOT-23, Pb-Free; PartNumber: LMP7701MFX/NOPB; Manufacturer: National Semiconductor; PackageTopMarking: AC2A*XTT; PowerWise: N; CompType: Amplifiers; High-Reliability: Y; DatasheetVersion: Jun-2008; PackageVersion: revD, Aug-2008; PackageReference: MF05A; PackageDescription: Molded SOT-23, .115 x .063 x .040 in Body, 5 Lead, .0375 in Pitch; RoHS: Y; PinCount: 5; ComponentLink1Description: Manufacturer URL; ComponentLink1URL: http://www.national.com/; ComponentLink2Description: LMP7701 Datasheet; ComponentLink2URL: http://www.national.com/ds/LM/LMP7701.pdf; ComponentLink3Description: LMP7701 Web Page; ComponentLink3URL: http://www.national.com/pf/LM/LMP7701.html; ComponentLink4Description: MF05A Package Page; ComponentLink4URL: http://www.national.com/packaging/folders/mf05a.html
footprint MF05A_N (SOT23, 5-Leads, Body 2.9x1.6mm, Pitch 0.95mm, Lead Span 2.8mm, IPC Medium Density)
footprint MF05A_L (SOT23, 5-Leads, Body 2.9x1.6mm, Pitch 0.95mm, Lead Span 2.8mm, IPC High Density)
footprint MF05A_M (SOT23, 5-Leads, Body 2.9x1.6mm, Pitch 0.95mm, Lead Span 2.8mm, IPC Low Density)
pins: 1 OUT (out), 2 V- (power), 3 IN+ (in), 4 IN- (in), 5 V+ (power)

## LMP7702MA
designator U?
Precision, CMOS Input, RRIO, Wide Supply Range Amplifiers, 8-pin Narrow SOIC; PartNumber: LMP7702MA; Manufacturer: National Semiconductor; PackageTopMarking: NSZXTT*LMP77*02MA; PowerWise: N; High-Reliability: Y; DatasheetVersion: Jun-2008; PackageVersion: revM, May-2009; PackageReference: M08A; PackageDescription: SOIC Narrow, 4.9 x 3.9 x 1.45mm, 8 Lead, 1.27mm Pitch; RoHS: Y; PinCount: 8; CompType: Amplifiers; Code_JEDEC: MS-012-AA; Code_IPC: SOIC127P600-8; ComponentLink1Description: Manufacturer URL; ComponentLink1URL: http://www.national.com/; ComponentLink2Description: LMP7702 Datasheet; ComponentLink2URL: http://www.national.com/ds/LM/LMP7702.pdf; ComponentLink3Description: LMP7702 Web Page; ComponentLink3URL: http://www.national.com/pf/LM/LMP7702.html; ComponentLink4Description: M08A Package Page; ComponentLink4URL: http://www.national.com/packaging/folders/m08a.html
footprint M08A_N (SOIC, 8-Leads, Body 4.9x3.9mm, Pitch 1.27mm, IPC Medium Density)
footprint M08A_L (SOIC, 8-Leads, Body 4.9x3.9mm, Pitch 1.27mm, IPC High Density)
footprint M08A_M (SOIC, 8-Leads, Body 4.9x3.9mm, Pitch 1.27mm, IPC Low Density)
pins on every part: 4 V- (power), 8 V+ (power)
part A pins: 1 OUTA (out), 2 INA- (in), 3 INA+ (in)
part B pins: 5 INB+ (in), 6 INB- (in), 7 OUTB (out)